# Altium schematic symbol library i_MX RT.SchLib: 1 symbol
Pins are listed as number, name and electrical type; pins without a type are passive.

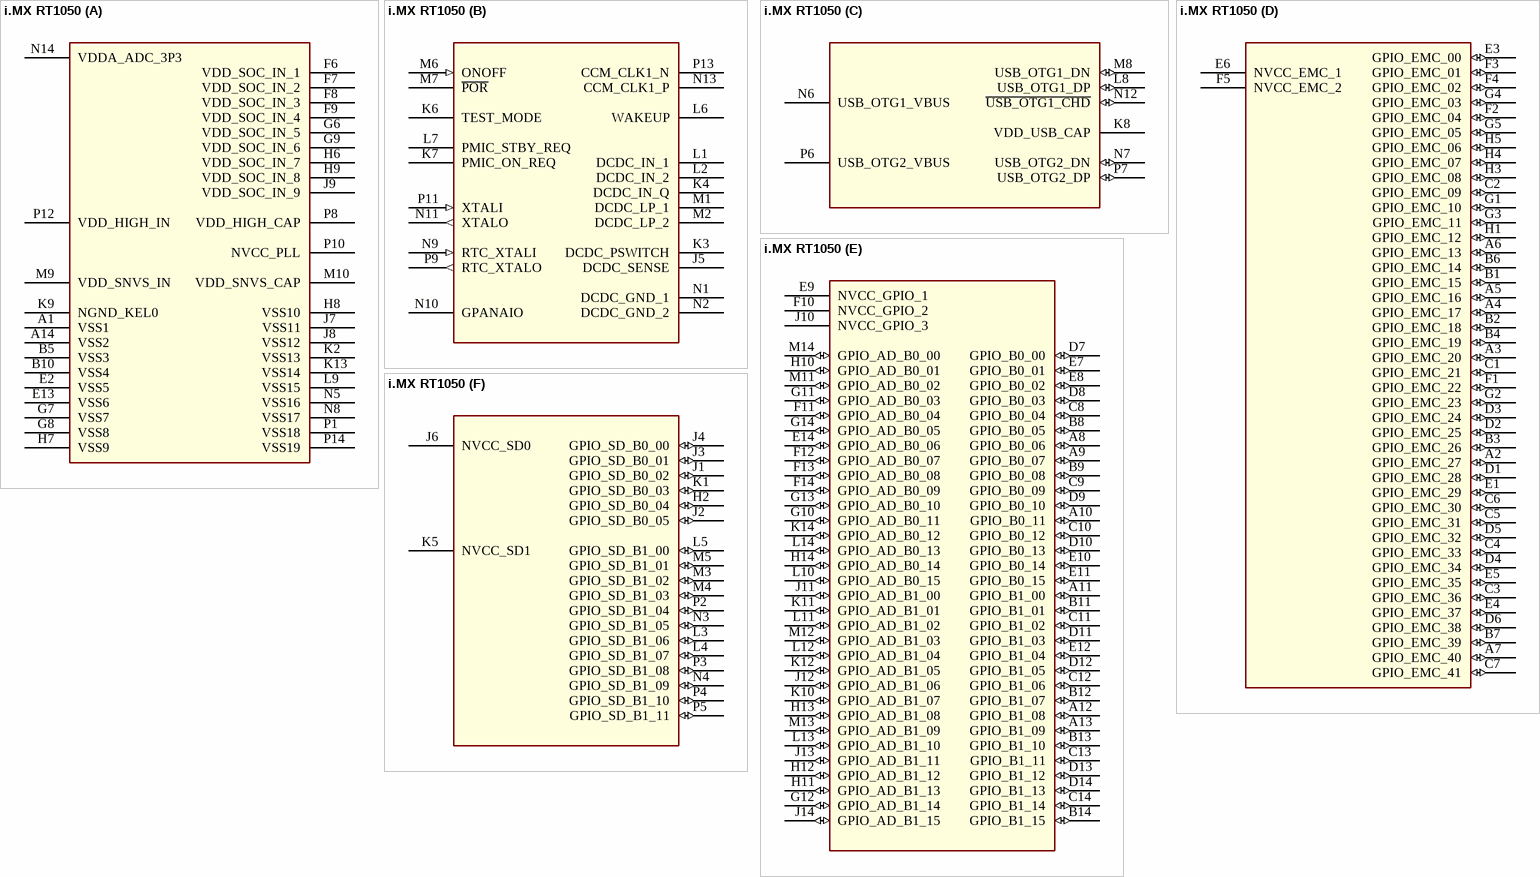
[diagram p0: symbol i.MX RT1050]

## i.MX RT1050
designator U?, comment MIMXRT1052CVL5B  (value not drawn)
The i.MX RT1050 is a new processor family featuring / NXP’s advanced implementation of the Arm Cortex®-M7 core, which operates at speeds up to 528MHz to provide high CPU performance and best real-time response.; SWAP_INFO: (S1+S2+S3+S4+S5+S6); SPLIT_INST: TRUE; CLASS: IC
footprint MAPBGA196_10X10_NXP
part A pins: A1 VSS1 (power), A14 VSS2 (power), B5 VSS3 (power), B10 VSS4 (power), E2 VSS5 (power), E13 VSS6 (power), F6 VDD_SOC_IN_1 (power), F7 VDD_SOC_IN_2 (power), F8 VDD_SOC_IN_3 (power), F9 VDD_SOC_IN_4 (power), G6 VDD_SOC_IN_5 (power), G7 VSS7 (power), G8 VSS8 (power), G9 VDD_SOC_IN_6 (power), H6 VDD_SOC_IN_7 (power), H7 VSS9 (power), H8 VSS10 (power), H9 VDD_SOC_IN_8 (power), J7 VSS11 (power), J8 VSS12 (power), J9 VDD_SOC_IN_9 (power), K2 VSS13 (power), K9 NGND_KEL0 (power), K13 VSS14 (power), L9 VSS15 (power), M9 VDD_SNVS_IN (power), M10 VDD_SNVS_CAP (power), N5 VSS16 (power), N8 VSS17 (power), N14 VDDA_ADC_3P3 (power), P1 VSS18 (power), P8 VDD_HIGH_CAP (power), P10 NVCC_PLL (power), P12 VDD_HIGH_IN (power), P14 VSS19 (power)
part B pins: J5 DCDC_SENSE, K3 DCDC_PSWITCH, K4 DCDC_IN_Q, K6 TEST_MODE, K7 PMIC_ON_REQ, L1 DCDC_IN_1, L2 DCDC_IN_2, L6 WAKEUP, L7 PMIC_STBY_REQ, M1 DCDC_LP_1, M2 DCDC_LP_2, M6 ONOFF (in), M7 ~{POR}, N1 DCDC_GND_1 (power), N2 DCDC_GND_2 (power), N9 RTC_XTALI (in), N10 GPANAIO (power), N11 XTALO (out), N13 CCM_CLK1_P, P9 RTC_XTALO (out), P11 XTALI (in), P13 CCM_CLK1_N
part C pins: K8 VDD_USB_CAP (power), L8 USB_OTG1_DP (io), M8 USB_OTG1_DN (io), N6 USB_OTG1_VBUS (power), N7 USB_OTG2_DN (io), N12 ~{USB_OTG1_CHD} (io), P6 USB_OTG2_VBUS (power), P7 USB_OTG2_DP (io)
part D pins: A2 GPIO_EMC_27 (io), A3 GPIO_EMC_20 (io), A4 GPIO_EMC_17 (io), A5 GPIO_EMC_16 (io), A6 GPIO_EMC_13 (io), A7 GPIO_EMC_40 (io), B1 GPIO_EMC_15 (io), B2 GPIO_EMC_18 (io), B3 GPIO_EMC_26 (io), B4 GPIO_EMC_19 (io), B6 GPIO_EMC_14 (io), B7 GPIO_EMC_39 (io), C1 GPIO_EMC_21 (io), C2 GPIO_EMC_09 (io), C3 GPIO_EMC_36 (io), C4 GPIO_EMC_33 (io), C5 GPIO_EMC_31 (io), C6 GPIO_EMC_30 (io), C7 GPIO_EMC_41 (io), D1 GPIO_EMC_28 (io), D2 GPIO_EMC_25 (io), D3 GPIO_EMC_24 (io), D4 GPIO_EMC_34 (io), D5 GPIO_EMC_32 (io), D6 GPIO_EMC_38 (io), E1 GPIO_EMC_29 (io), E3 GPIO_EMC_00 (io), E4 GPIO_EMC_37 (io), E5 GPIO_EMC_35 (io), E6 NVCC_EMC_1 (power), F1 GPIO_EMC_22 (io), F2 GPIO_EMC_04 (io), F3 GPIO_EMC_01 (io), F4 GPIO_EMC_02 (io), F5 NVCC_EMC_2 (power), G1 GPIO_EMC_10 (io), G2 GPIO_EMC_23 (io), G3 GPIO_EMC_11 (io), G4 GPIO_EMC_03 (io), G5 GPIO_EMC_05 (io), H1 GPIO_EMC_12 (io), H3 GPIO_EMC_08 (io), H4 GPIO_EMC_07 (io), H5 GPIO_EMC_06 (io)
part E pins: A8 GPIO_B0_06 (io), A9 GPIO_B0_07 (io), A10 GPIO_B0_11 (io), A11 GPIO_B1_00 (io), A12 GPIO_B1_08 (io), A13 GPIO_B1_09 (io), B8 GPIO_B0_05 (io), B9 GPIO_B0_08 (io), B11 GPIO_B1_01 (io), B12 GPIO_B1_07 (io), B13 GPIO_B1_10 (io), B14 GPIO_B1_15 (io), C8 GPIO_B0_04 (io), C9 GPIO_B0_09 (io), C10 GPIO_B0_12 (io), C11 GPIO_B1_02 (io), C12 GPIO_B1_06 (io), C13 GPIO_B1_11 (io), C14 GPIO_B1_14 (io), D7 GPIO_B0_00 (io), D8 GPIO_B0_03 (io), D9 GPIO_B0_10 (io), D10 GPIO_B0_13 (io), D11 GPIO_B1_03 (io), D12 GPIO_B1_05 (io), D13 GPIO_B1_12 (io), D14 GPIO_B1_13 (io), E7 GPIO_B0_01 (io), E8 GPIO_B0_02 (io), E9 NVCC_GPIO_1 (power), E10 GPIO_B0_14 (io), E11 GPIO_B0_15 (io), E12 GPIO_B1_04 (io), E14 GPIO_AD_B0_06 (io), F10 NVCC_GPIO_2 (power), F11 GPIO_AD_B0_04 (io), F12 GPIO_AD_B0_07 (io), F13 GPIO_AD_B0_08 (io), F14 GPIO_AD_B0_09 (io), G10 GPIO_AD_B0_11 (io), G11 GPIO_AD_B0_03 (io), G12 GPIO_AD_B1_14 (io), G13 GPIO_AD_B0_10 (io), G14 GPIO_AD_B0_05 (io), H10 GPIO_AD_B0_01 (io), H11 GPIO_AD_B1_13 (io), H12 GPIO_AD_B1_12 (io), H13 GPIO_AD_B1_08 (io), H14 GPIO_AD_B0_14 (io), J10 NVCC_GPIO_3 (power), J11 GPIO_AD_B1_00 (io), J12 GPIO_AD_B1_06 (io), J13 GPIO_AD_B1_11 (io), J14 GPIO_AD_B1_15 (io), K10 GPIO_AD_B1_07 (io), K11 GPIO_AD_B1_01 (io), K12 GPIO_AD_B1_05 (io), K14 GPIO_AD_B0_12 (io), L10 GPIO_AD_B0_15 (io), L11 GPIO_AD_B1_02 (io), L12 GPIO_AD_B1_04 (io), L13 GPIO_AD_B1_10 (io), L14 GPIO_AD_B0_13 (io), M11 GPIO_AD_B0_02 (io), M12 GPIO_AD_B1_03 (io), M13 GPIO_AD_B1_09 (io), M14 GPIO_AD_B0_00 (io)
part F pins: H2 GPIO_SD_B0_04 (io), J1 GPIO_SD_B0_02 (io), J2 GPIO_SD_B0_05 (io), J3 GPIO_SD_B0_01 (io), J4 GPIO_SD_B0_00 (io), J6 NVCC_SD0 (power), K1 GPIO_SD_B0_03 (io), K5 NVCC_SD1 (power), L3 GPIO_SD_B1_06 (io), L4 GPIO_SD_B1_07 (io), L5 GPIO_SD_B1_00 (io), M3 GPIO_SD_B1_02 (io), M4 GPIO_SD_B1_03 (io), M5 GPIO_SD_B1_01 (io), N3 GPIO_SD_B1_05 (io), N4 GPIO_SD_B1_09 (io), P2 GPIO_SD_B1_04 (io), P3 GPIO_SD_B1_08 (io), P4 GPIO_SD_B1_10 (io), P5 GPIO_SD_B1_11 (io)